# Altium schematic symbol library MM32F3277核心板整体原理.SchLib: 1 symbol
Pins are listed as number, name and electrical type; pins without a type are passive.

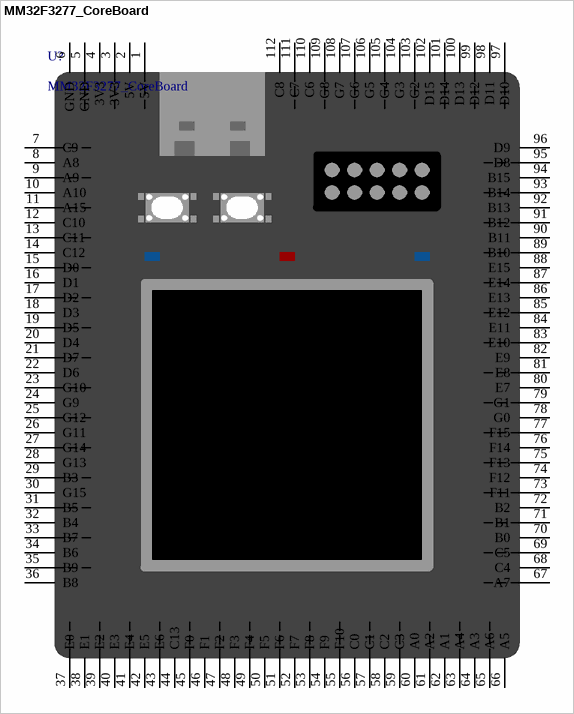
[diagram p0: symbol MM32F3277_CoreBoard]

## MM32F3277_CoreBoard
designator U?
逐飞科技MM32F3277核心板
footprint MM32F3277_CoreBoard (Footprint not found)
pins: 1 5V, 2 5V, 3 3V3, 4 3V3, 5 GND, 6 GND, 7 C9, 8 A8, 9 A9, 10 A10, 11 A15, 12 C10, 13 C11, 14 C12, 15 D0, 16 D1, 17 D2, 18 D3, 19 D5, 20 D4, 21 D7, 22 D6, 23 G10, 24 G9, 25 G12, 26 G11, 27 G14, 28 G13, 29 B3, 30 G15, 31 B5, 32 B4, 33 B7, 34 B6, 35 B9, 36 B8, 37 E0, 38 E1, 39 E2, 40 E3, 41 E4, 42 E5, 43 E6, 44 C13, 45 F0, 46 F1, 47 F2, 48 F3, 49 F4, 50 F5, 51 F6, 52 F7, 53 F8, 54 F9, 55 F10, 56 C0, 57 C1, 58 C2, 59 C3, 60 A0, 61 A2, 62 A1, 63 A4, 64 A3, 65 A6, 66 A5, 67 A7, 68 C4, 69 C5, 70 B0, 71 B1, 72 B2, 73 F11, 74 F12, 75 F13, 76 F14, 77 F15, 78 G0, 79 G1, 80 E7, 81 E8, 82 E9, 83 E10, 84 E11, 85 E12, 86 E13, 87 E14, 88 E15, 89 B10, 90 B11, 91 B12, 92 B13, 93 B14, 94 B15, 95 D8, 96 D9, 97 D10, 98 D11, 99 D12, 100 D13, 101 D14, 102 D15, 103 G2, 104 G3, 105 G4, 106 G5, 107 G6, 108 G7, 109 G8, 110 C6, 111 C7, 112 C8